# Altium footprint library USB3.0_Standard_A_RA_SMT.PcbLib: 1 footprints
Each footprint in its own frame and in the unit in brackets; x right, y up, seen from the top. Pads: shape width x height; smd on the part's side, far side on the other; paste and mask are expansions set on the pad; w line width, h text height; cw(c..) or ccw(c..) is an arc to the next point about the centre after c.
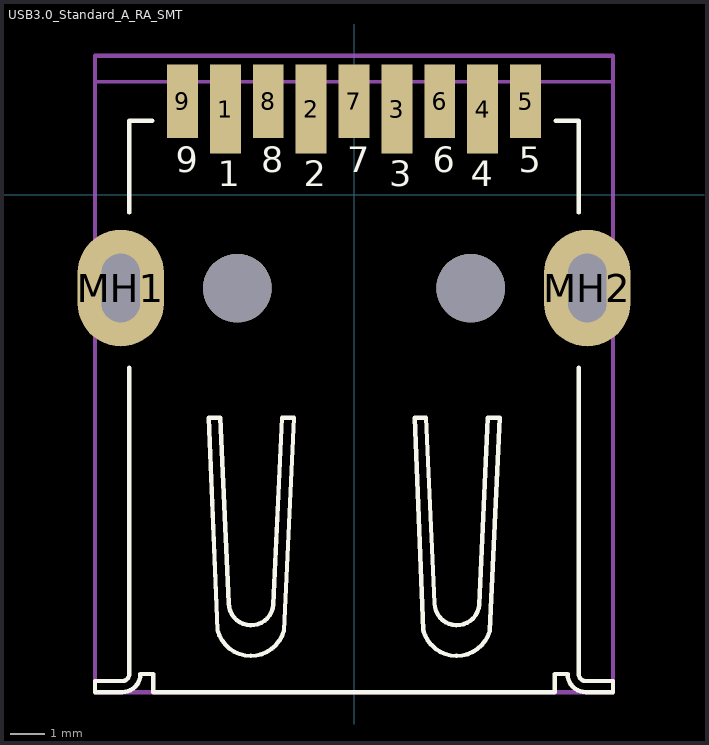
[diagram p0: the footprint, top view; thin cyan lines are the x and y axes]

## USB3.0_Standard_A_RA_SMT [mm] "Pitch1.25mm Body15X18mm High 2mm"
height 2
pads (13):
  rect 0.9x2.6 smd: 1(-3.75,2.498) 2(-1.25,2.498) 3(1.25,2.498) 4(3.75,2.498)
  rect 0.9x2.15 smd: 5(5,2.723) 6(2.5,2.723) 7(0,2.723) 8(-2.5,2.723) 9(-5,2.723)
  oval 2.52x3.4 hole 1.12 slot 2 at 90 deg: MH1(-6.8,-2.723) MH2(6.8,-2.723)
  round 2 hole 2 unplated: ""(-3.4,-2.723) ""(3.4,-2.723)
Top Overlay:
  lines w0.127: -6.55,-5.05 -6.55,-13.973 cw(c-6.755,-13.973) -6.755,-14.179 -7.55,-14.179 -7.55,-14.5 -6.754,-14.5 ccw(c-6.754,-13.973) -6.228,-13.973 -5.85,-13.973 -5.85,-14.5 5.85,-14.5 5.85,-13.973 6.228,-13.973 ccw(c6.754,-13.973) 6.754,-14.5 7.55,-14.5 7.55,-14.179 6.755,-14.179 cw(c6.755,-13.973) 6.55,-13.973 6.55,-5.05 ; -6.55,-0.52 -6.55,2.15 -5.88,2.15 ; 2.099,-6.499 1.766,-6.499 2.02,-12.695 ccw(c2.991,-12.442) 3.961,-12.703 4.25,-6.5 3.9,-6.5 3.65,-11.95 cw(c3,-11.9) 2.348,-11.913 2.1,-6.5 ; 5.88,2.15 6.55,2.15 6.55,-0.52 ; -4.234,-6.499 -3.901,-6.499 -3.652,-11.913 ccw(c-3,-11.9) -2.35,-11.95 -2.1,-6.5 -1.75,-6.5 -2.039,-12.703 cw(c-3.009,-12.442) -3.98,-12.695 -4.234,-6.499
  text "8" at -2.7,0.411 h1.27
  text "7" at -0.2,0.411 h1.27
  text "6" at 2.3,0.411 h1.27
  text "3" at 1.03,0 h1.27
  text "2" at -1.47,0 h1.27
  text "5" at 4.8,0.411 h1.27
  text "9" at -5.2,0.411 h1.27
  text "4" at 3.4,0 h1.27
  text "1" at -3.97,0 h1.27
Mechanical 13:
  lines w0.1: -7.546,-14.502 7.554,-14.502 7.554,3.298 -7.546,3.298 -7.546,-14.502
Mechanical 15:
  lines w0.127: -7.55,-14.503 -7.55,4.048 7.55,4.048 7.55,-14.503 -7.55,-14.503
3D body: height 7.98, standoff -2.26, extent -7.546,-14.502 7.554,3.298